# Altium schematic symbol library IC.SchLib: 4 symbols
Pins are listed as number, name and electrical type; pins without a type are passive.

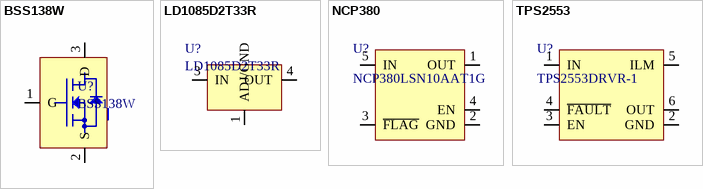
[diagram p0: symbols BSS138W to TPS2553]

## BSS138W
designator U?
MOSFET 50V N-CH Logic Level; Manufacturer: Fairchild Semiconductor; Channel Type: N-Channel; Drain-Source On Resistance-Max: 3.5 O; Qg Gate Charge: 1.1 nC; Rated Power Dissipation: 340 mW; Supplier 1: Digi-Key; Manufacturer Part Number: BSS138W; Stock 1: 55420; Drain-to-Source Voltage [Vdss]: 50 V; ComponentLink1URL: https://datasheet.ciiva.com/17170/bss138w-17170739.pdf; ComponentLink1Description: https://datasheet.ciiva.com/17170/bss138w-17170739.pdf; ComponentLink2URL: https://datasheet.ciiva.com/8115/bss138w-8115367.pdf; ComponentLink2Description: https://datasheet.ciiva.com/8115/bss138w-8115367.pdf; ComponentLink3URL: https://datasheet.ciiva.com/15043/bss138w-15043927.pdf; ComponentLink3Description: https://datasheet.ciiva.com/15043/bss138w-15043927.pdf; ComponentLink4URL: https://datasheet.ciiva.com/15043/bss138w-15043928.pdf; ComponentLink4Description: https://datasheet.ciiva.com/15043/bss138w-15043928.pdf; ComponentLink5URL: https://datasheet.ciiva.com/15043/bss138w-15043929.pdf; ComponentLink5Description: https://datasheet.ciiva.com/15043/bss138w-15043929.pdf; ComponentLink6URL: https://datasheet.ciiva.com/8115/bss138w-8115370.pdf; ComponentLink6Description: https://datasheet.ciiva.com/8115/bss138w-8115370.pdf; ComponentLink7URL: https://datasheet.ciiva.com/26146/bss138w-26146843.pdf; ComponentLink7Description: https://datasheet.ciiva.com/26146/bss138w-26146843.pdf; ComponentLink8URL: https://datasheet.ciiva.com/13042/bss138w-91619-13042909.pdf; ComponentLink8Description: https://datasheet.ciiva.com/13042/bss138w-91619-13042909.pdf; Supplier Part Number 1: BSS138WCT-ND
footprint SOT323
pins: 1 G, 2 S, 3 D

## LD1085D2T33R
designator U?
Fixed LDO Voltage Regulator, 6.3V to 30V, 1.3V Dropout, 3.3Vout, 3Aout, TO-263-3; Manufacturer: STMicroelectronics; Number of Outputs: 1; Max Output Current: 3A; Output Voltage: 3.3V; Min Supply Voltage: 4.9V; Input Bias Current: 5mA; Polarity: Positive; Quiescent Current: 10mA; Max Output Voltage: 3.333V; Accuracy: 1%; Supplier 1: Digi-Key; Manufacturer Part Number: LD1085D2T33R; Stock 1: 5416; Mount: Surface Mount; Case/Package: TO-263; Number of Pins: 3; Weight: 0.01lb; Contact Plating: Tin,Matte; Min Operating Temperature: -40°C; Max Operating Temperature: 125°C; Packaging: Tape and Reel; Max Input Voltage: 30V; Dropout Voltage: 1.3V; Output Current: 3A; Max Supply Voltage: 30V; Package Quantity: 1; Min Input Voltage: 6.3V; Nominal Output Voltage: 3.3V; Number of Regulators: 1; Min Output Voltage: 3.3V; Termination: SMD/SMT; Output Voltage Accuracy: 1%; Length: 10.4mm; Height: 4.6mm; Width: 9.35mm; Radiation Hardening: No; REACH SVHC: No SVHC; Lead Free: Lead Free; ComponentLink1URL: https://datasheet.ciiva.com/16375/cd00001883-16375381.pdf; ComponentLink1Description: https://datasheet.ciiva.com/16375/cd00001883-16375381.pdf; ComponentLink2URL: https://datasheet.ciiva.com/1511/1761309-1511542.pdf; ComponentLink2Description: https://datasheet.ciiva.com/1511/1761309-1511542.pdf; ComponentLink3URL: https://datasheet.ciiva.com/22694/1761309-22694841.pdf; ComponentLink3Description: https://datasheet.ciiva.com/22694/1761309-22694841.pdf; ComponentLink4URL: https://datasheet.ciiva.com/2044/cd00001883-2044187.pdf; ComponentLink4Description: https://datasheet.ciiva.com/2044/cd00001883-2044187.pdf; ComponentLink5URL: https://datasheet.ciiva.com/15111/getdatasheetpartid-65476-15111291.pdf; ComponentLink5Description: https://datasheet.ciiva.com/15111/getdatasheetpartid-65476-15111291.pdf; ComponentLink6URL: https://datasheet.ciiva.com/2044/cd00001883-2044188.pdf; ComponentLink6Description: https://datasheet.ciiva.com/2044/cd00001883-2044188.pdf; ComponentLink7URL: https://datasheet.ciiva.com/2044/cd00001883-2044189.pdf; ComponentLink7Description: https://datasheet.ciiva.com/2044/cd00001883-2044189.pdf; ComponentLink8URL: https://datasheet.ciiva.com/41439/001184676-da-01-en-ic-reg-ldo-3-3-ld1085d2t33r-to-263-3-stm-41439834.pdf; ComponentLink8Description: https://datasheet.ciiva.com/41439/001184676-da-01-en-ic-reg-ldo-3-3-ld1085d2t33r-to-263-3-stm-41439834.pdf; Supplier Part Number 1: 497-1222-6-ND; Pricing 1: 1=1.46, 10=1.305, 100=1.0176, 500=0.84066 (USD)
footprint D2PAK
pins: 1 ADJ/GND, 3 IN, 4 OUT

## NCP380
designator U?, comment NCP380LSN10AAT1G
REEL / OVER CURRENT PROTECTION; Manufacturer: ON Semiconductor; Number of Outputs: 1; Max Input Voltage: 5.5V; Min Input Voltage: 2.5V; Max Power Dissipation: 325mW; Number of Inputs: 2; Current Rating: 1A; Interface: On/Off; On-State Resistance: 135mR; Turn-On Delay Time: 4ms; Turn-Off Delay Time: 3ms; Output Configuration: High Side; On-state Resistance-Max: 110MR; Supplier 1: Digi-Key; Manufacturer Part Number: NCP380LSN10AAT1G; RoHS: Yes; Category: USB Interface ICs; Mount: Surface Mount; Case/Package: TSOP; Number of Pins: 5; Min Operating Temperature: -40°C; Max Operating Temperature: 85°C; Package Quantity: 1; Packaging: Tape and Reel; Output Current: 1A; Max Output Current: 1A; Operating Supply Voltage: 5.5V; Series: -; Number of Switches: 1; Rated Current-Max: 1A; Length: 3mm; Width: 1.5mm; Height: 1mm; Lead Free: Lead Free; Halogen Free: Halogen Free; RoHS Compliant: Yes; ComponentLink1URL: https://datasheet.ciiva.com/1939/ncp380-d-1939778.pdf?src-supplier=Digi-Key; ComponentLink1Description: https://datasheet.ciiva.com/1939/ncp380-d-1939778.pdf?src-supplier=Digi-Key; ComponentLink2URL: https://datasheet.ciiva.com/1939/ncp380-d-1939779.pdf?src-supplier=Digi-Key; ComponentLink2Description: https://datasheet.ciiva.com/1939/ncp380-d-1939779.pdf?src-supplier=Digi-Key; ComponentLink3URL: https://datasheet.ciiva.com/1939/ncp380-d-1939780.pdf?src-supplier=Digi-Key; ComponentLink3Description: https://datasheet.ciiva.com/1939/ncp380-d-1939780.pdf?src-supplier=Digi-Key; ComponentLink4URL: https://datasheet.ciiva.com/16468/ncp380-d-16468713.pdf?src-supplier=Future+Electronics; ComponentLink4Description: https://datasheet.ciiva.com/16468/ncp380-d-16468713.pdf?src-supplier=Future+Electronics; Supplier Part Number 1: NCP380LSN10AAT1GOSCT-ND; Pricing 1: 1=0.76000, 10=0.66500, 25=0.62440, 100=0.50950, 250=0.47328, 500=0.40280, 1000=0.33250 (USD); Supplier 2: Digi-Key
footprint TSOP-5
pins: 1 OUT, 2 GND, 3 ~{FLAG}, 4 EN, 5 IN

## TPS2553
designator U?, comment TPS2553DRVR-1
IC PWR DIST SWITCH ADJ 6SON; Manufacturer: Texas Instruments; Min Supply Voltage: 2.5V; Max Supply Voltage: 6.5V; Number of Outputs: 1; Interface: On/Off; Max Output Current: 1.5A; Fault Protection: Over Temperature; Output Configuration: High Side; Supplier 1: Digi-Key; Manufacturer Part Number: TPS2553DRVR-1; RoHS: Yes; Category: Hot Swap Controllers; Case/Package: SON; Number of Pins: 6; Weight: 0.000342oz; Min Operating Temperature: -40°C; Max Operating Temperature: 85°C; Packaging: Tape and Reel; Package Quantity: 3000; Max Input Voltage: 6.5V; Min Input Voltage: 2.5V; Series: -; Number of Switches: 1; Radiation Hardening: No; Lead Free: Lead Free; RoHS Compliant: Yes; ComponentLink1URL: https://datasheet.ciiva.com/15108/getdatasheetpartid-625184-15108813.pdf?src-supplier=Verical; ComponentLink1Description: https://datasheet.ciiva.com/15108/getdatasheetpartid-625184-15108813.pdf?src-supplier=Verical; ComponentLink2URL: https://datasheet.ciiva.com/1963/tps2552-1963661.pdf?src-supplier=Digi-Key; ComponentLink2Description: https://datasheet.ciiva.com/1963/tps2552-1963661.pdf?src-supplier=Digi-Key; ComponentLink3URL: https://datasheet.ciiva.com/26072/tps2553-1-26072302.pdf?src-supplier=Avnet+Europe; ComponentLink3Description: https://datasheet.ciiva.com/26072/tps2553-1-26072302.pdf?src-supplier=Avnet+Europe; Supplier Part Number 1: 296-39381-1-ND; Pricing 1: 1=0.91000, 10=0.81300, 25=0.77160, 100=0.63390, 250=0.59256, 500=0.52364, 1000=0.45500 (USD)
footprint DRV0006A_V (SON, 6-Leads, Body 2x2mm, Pitch 0.65mm, Thermal Pad 1.6x1mm, TI Recommended)
pins: 1 IN, 2 GND, 3 EN, 4 ~{FAULT}, 5 ILM, 6 OUT